# EAGLE library part 7SEG(2X1)LB-402VD (library Components Library)
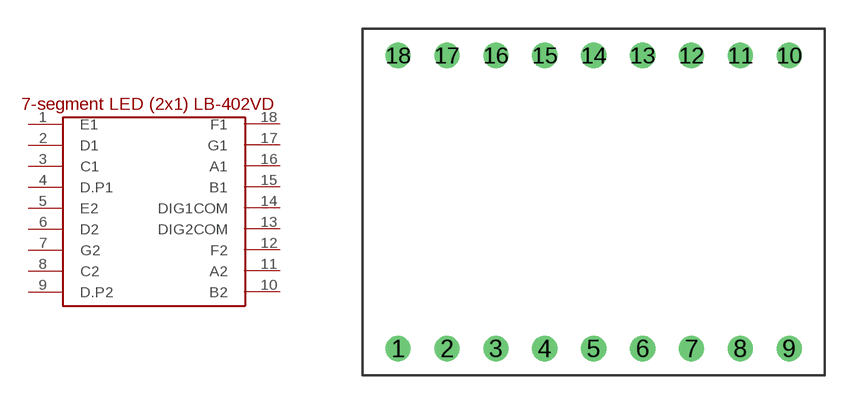
[diagram p21: symbol with the pads of 7SEG(2X1)LB-402VD; footprint 7SEG(2X1)LB-402VD]

Designator prefix -

## 7SEG(2X1)LB-402VD  [7SEG(2X1)LB-402VD]
1  E1
2  D1
3  C1
4  D.P1
5  E2
6  D2
7  G2
8  C2
9  D.P2
10  B2
11  A2
12  F2
13  DIG2COM
14  DIG1COM
15  B1
16  A1
17  G1
18  F1

## Footprint 7SEG(2X1)LB-402VD (pad centres in mm)
drill 0.8: 1 1.84,1.38; 2 4.38,1.38; 3 6.92,1.38; 4 9.46,1.38; 5 12,1.38; 6 14.54,1.38; 7 17.08,1.38; 8 19.62,1.38; 9 22.16,1.38; 10 22.16,16.62; 11 19.62,16.62; 12 17.08,16.62; 13 14.54,16.62; 14 12,16.62; 15 9.46,16.62; 16 6.92,16.62; 17 4.38,16.62; 18 1.84,16.62